# Altium footprint library Fuse.PcbLib: 117 footprints (part 5 of 8)
Each footprint in its own frame and in the unit in brackets; x right, y up, seen from the top. Pads: shape width x height; smd on the part's side, far side on the other; paste and mask are expansions set on the pad; w line width, h text height; cw(c..) or ccw(c..) is an arc to the next point about the centre after c.
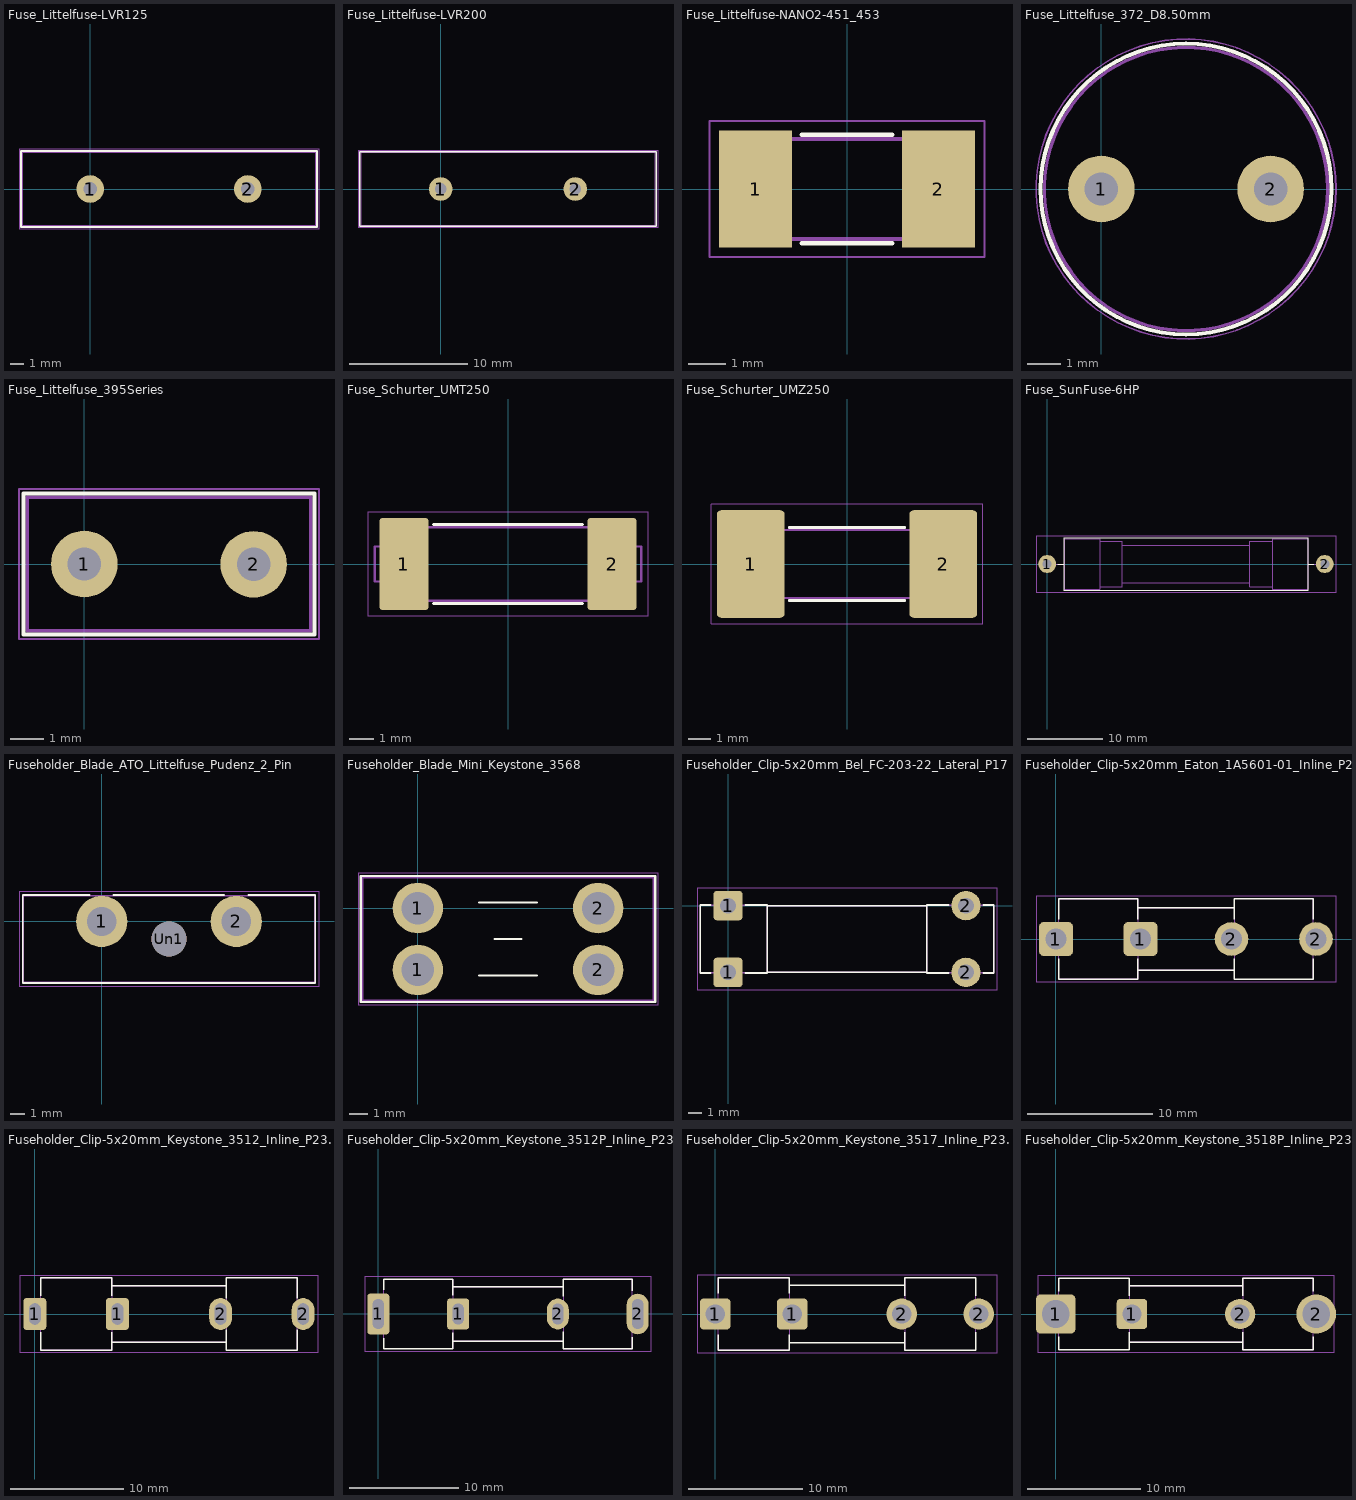
[diagram p4: the footprints below, top view; thin cyan lines are the x and y axes]

## Fuse_Littelfuse-LVR125 [mm]
pads (2):
  round 2 hole 1: 1(0,0) 2(11.4,0)
F.SilkS:
  lines w0.12: -5,-2.75 16.4,-2.75 16.4,2.75 -5,2.75 -5,-2.75
F.CrtYd:
  lines w0.05: -5.15,-2.9 -5.15,2.9 16.55,2.9 16.55,-2.9 -5.15,-2.9
F.Fab:
  lines w0.1: -4.9,-2.65 -4.9,2.65 16.3,2.65 16.3,-2.65 -4.9,-2.65
  text "'.Designator'" at 1.953,-0.84 h1

## Fuse_Littelfuse-LVR200 [mm]
pads (2):
  round 2 hole 1: 1(0,0) 2(11.4,0)
F.SilkS:
  lines w0.12: -6.85,-3.15 18.25,-3.15 18.25,3.15 -6.85,3.15 -6.85,-3.15
F.CrtYd:
  lines w0.05: -7,-3.3 -7,3.3 18.4,3.3 18.4,-3.3 -7,-3.3
F.Fab:
  lines w0.1: -6.75,-3.05 18.15,-3.05 18.15,3.05 -6.75,3.05 -6.75,-3.05
  text "'.Designator'" at 1.953,-0.84 h1

## Fuse_Littelfuse-NANO2-451_453 [mm]
pads (2):
  rect 1.96x3.15 smd: 1(-2.455,0) 2(2.455,0)
F.SilkS:
  lines w0.12: -1.215,-1.455 1.215,-1.455 ; -1.215,1.455 1.215,1.455
F.CrtYd:
  lines w0.05: -3.69,-1.83 -3.69,1.83 3.69,1.83 3.69,-1.83 -3.69,-1.83
F.Fab:
  lines w0.1: -3.05,-1.345 3.05,-1.345 3.05,1.345 -3.05,1.345 -3.05,-1.345
  text "'.Designator'" at -4.047,-0.84 h1

## Fuse_Littelfuse_372_D8.50mm [mm]
pads (2):
  round 2 hole 1: 1(0,0) 2(5.08,0)
F.SilkS:
  circle w0.12: c2.54,0 r4.36
F.CrtYd:
  circle w0.05: c2.54,0 r4.5
F.Fab:
  circle w0.1: c2.54,0 r4.25
  text "'.Designator'" at -1.507,-0.84 h1

## Fuse_Littelfuse_395Series [mm]
pads (2):
  round 2 hole 1: 1(0,0) 2(5.08,-0.01)
F.SilkS:
  lines w0.12: -1.83,-2.12 -1.83,2.12 6.91,2.12 6.91,-2.12 -1.83,-2.12
F.CrtYd:
  lines w0.05: -1.96,-2.25 -1.96,2.25 7.04,2.25 7.04,-2.25 -1.96,-2.25
F.Fab:
  lines w0.1: -1.71,-2 -1.71,2 6.79,2 6.79,-2 -1.71,-2
  text "'.Designator'" at -1.297,0.41 h1

## Fuse_Schurter_UMT250 [mm]
pads (2):
  rrect12% 2x3.75 smd: 1(-4.25,0) 2(4.25,0)
F.SilkS:
  lines w0.12: -3.05,-1.61 3.05,-1.61 ; -3.05,1.61 3.05,1.61
F.CrtYd:
  lines w0.05: -5.7,-2.13 -5.7,2.13 5.7,2.13 5.7,-2.13 -5.7,-2.13
F.Fab:
  lines w0.1: -5.05,-0.715 -5.45,-0.715 -5.45,0.715 -5.05,0.715 ; 5.05,-0.715 5.45,-0.715 5.45,0.715 5.05,0.715 ; -5.05,-1.5 5.05,-1.5 5.05,1.5 -5.05,1.5 -5.05,-1.5
  text "'.Designator'" at -4.047,-0.84 h1

## Fuse_Schurter_UMZ250 [mm]
pads (2):
  rrect12% 3x4.75 smd: 1(-4.25,0) 2(4.25,0)
F.SilkS:
  lines w0.12: -2.55,-1.61 2.55,-1.61 ; -2.55,1.61 2.55,1.61
F.CrtYd:
  lines w0.05: -6,-2.63 6,-2.63 6,2.63 -6,2.63 -6,-2.63
F.Fab:
  lines w0.1: -5.35,-0.715 -5.45,-0.715 -5.45,0.715 -5.35,0.715 ; -3.35,-1.5 -3.35,-2.1 -5.35,-2.1 -5.35,2.1 -3.35,2.1 -3.35,1.5 ; 3.35,-1.5 3.35,-2.1 5.35,-2.1 5.35,2.1 3.35,2.1 3.35,1.5 ; 5.35,-0.715 5.45,-0.715 5.45,0.715 5.35,0.715 ; -5.05,-1.5 -5.05,1.5 5.05,1.5 5.05,-1.5 -5.05,-1.5
  text "'.Designator'" at -4.047,-0.84 h1

## Fuse_SunFuse-6HP [mm]
pads (2):
  round 2.4 hole 1.2: 1(0,0) 2(37,0)
F.SilkS:
  lines w0.12: 2.18,-3.5 2.18,3.5 34.82,3.5 34.82,-3.5 2.18,-3.5
  lines w0.15: 1.4,0 2.18,0 ; 34.82,0 35.5,0
F.CrtYd:
  lines w0.05: -1.5,-3.75 38.5,-3.75 38.5,3.75 -1.5,3.75 -1.5,-3.75
F.Fab:
  lines w0.1: 0,0 2.25,0 ; 7,-3.05 10,-3.05 10,3.05 7,3.05 ; 10,-2.5 27,-2.5 ; 10,2.5 27,2.5 ; 30,-3.375 30,3.375 34.75,3.375 34.75,-3.375 30,-3.37 ; 30,-3.05 27,-3.05 27,3.05 30,3.05 ; 34.75,0 37,0 ; 2.25,-3.375 7,-3.375 7,3.375 2.25,3.375 2.25,-3.375
  text "'.Designator'" at 13.733,-5.92 h1

## Fuseholder_Blade_ATO_Littelfuse_Pudenz_2_Pin [mm]
pads (3):
  round 3.5 hole 2: 1(0,0) 2(9.2,0)
  round 2.4 hole 2.4: Un1(4.6,-1.2)
F.SilkS:
  lines w0.12: -0.81,1.8 -5.4,1.8 -5.4,-4.2 14.6,-4.2 14.6,1.8 10.02,1.8 ; 0.81,1.8 8.38,1.8
F.CrtYd:
  lines w0.05: -5.65,-4.45 14.85,-4.45 14.85,2.05 -5.65,2.05 -5.65,-4.45
F.Fab:
  lines w0.1: -5.35,-4.15 -5.35,1.75 14.55,1.75 14.55,-4.15 -5.35,-4.15
  text "'.Designator'" at 0.453,-4.34 h1

## Fuseholder_Blade_Mini_Keystone_3568 [mm]
pads (4):
  round 2.78 hole 1.78: 1(0,-3.4) 1(0,0) 2(9.92,-3.4) 2(9.92,0)
F.SilkS:
  lines w0.12: 3.36,-3.7 6.56,-3.7 ; 3.36,0.3 6.56,0.3 ; 4.21,-1.7 5.71,-1.7 ; -3.14,-5.17 13.06,-5.17 13.06,1.77 -3.14,1.77 -3.14,-5.17
F.CrtYd:
  lines w0.05: -3.29,-5.32 13.21,-5.32 13.21,1.92 -3.29,1.92 -3.29,-5.32
F.Fab:
  lines w0.1: -3.04,-5.07 -3.04,1.67 12.96,1.67 12.96,-5.07 -3.04,-5.07
  text "'.Designator'" at 0.913,-2.54 h1

## Fuseholder_Clip-5x20mm_Bel_FC-203-22_Lateral_P17.80x5.00mm_D1.17mm_Horizontal [mm]
pads (4):
  rrect25% 2.2x2.2 hole 1.17: 1(0,-5) 1(0,0)
  round 2.2 hole 1.17: 2(17.8,-5) 2(17.8,0)
F.SilkS:
  lines w0.12: -1.3,-5.04 -2.07,-5.04 -2.07,0.04 -1.3,0.04 ; 1.3,-5.04 2.93,-5.04 2.93,0.04 1.3,0.04 ; 2.93,-5 14.87,-5 ; 2.93,0 14.87,0 ; 16.5,-5.04 14.87,-5.04 14.87,0.04 16.5,0.04 ; 19.1,-5.04 19.87,-5.04 19.87,0.04 19.1,0.04
F.CrtYd:
  lines w0.05: -2.32,-6.35 20.12,-6.35 20.12,1.35 -2.32,1.35 -2.32,-6.35
F.Fab:
  lines w0.1: 2.9,-5.04 -2.07,-5.04 -2.07,0.04 2.93,0.04 2.93,-5.04 ; 2.93,-5 14.87,-5 ; 2.93,0 14.87,0 ; 14.87,-5.04 14.87,0.04 19.87,0.04 19.87,-5.04 14.87,-5.04
  text "'.Designator'" at 4.853,-3.34 h1

## Fuseholder_Clip-5x20mm_Eaton_1A5601-01_Inline_P20.80x6.76mm_D1.70mm_Horizontal [mm]
pads (4):
  rrect25% 2.7x2.7 hole 1.7: 1(0,0) 1(6.76,0)
  round 2.7 hole 1.7: 2(14.04,0) 2(20.8,0)
F.SilkS:
  lines w0.12: 0.23,-1.6 0.23,-3.2 6.53,-3.2 6.53,-1.6 ; 0.23,1.6 0.23,3.2 6.53,3.2 6.53,1.6 ; 6.53,-2.5 14.27,-2.5 ; 6.53,2.5 14.27,2.5 ; 14.27,-1.6 14.27,-3.2 20.57,-3.2 20.57,-1.6 ; 14.27,1.6 14.27,3.2 20.57,3.2 20.57,1.6
F.CrtYd:
  lines w0.05: -1.6,-3.47 -1.6,3.47 22.4,3.47 22.4,-3.47 -1.6,-3.47
F.Fab:
  lines w0.1: 6.53,-2.5 14.27,-2.5 ; 6.53,2.5 14.27,2.5 ; 0.23,-3.2 0.23,3.2 6.53,3.2 6.53,-3.2 0.23,-3.2 ; 14.27,-3.2 20.57,-3.2 20.57,3.2 14.27,3.2 14.27,-3.2
  text "'.Designator'" at 6.353,-0.84 h1

## Fuseholder_Clip-5x20mm_Keystone_3512_Inline_P23.62x7.27mm_D1.02x1.57mm_Horizontal [mm]
pads (4):
  rrect25% 2x2.8 hole 1.87 slot 1.02 at 0 deg: 1(0,0) 1(7.27,0)
  rrect100% 2x2.8 hole 1.87 slot 1.02 at 0 deg: 2(16.35,0) 2(23.62,0)
F.SilkS:
  lines w0.12: 0.51,-1.6 0.51,-3.175 6.76,-3.175 6.76,-1.6 ; 0.51,1.6 0.51,3.175 6.76,3.175 6.76,1.6 ; 6.76,-2.5 16.86,-2.5 ; 6.76,2.5 16.86,2.5 ; 16.86,-1.4 16.86,-3.175 23.11,-3.175 23.11,-1.4 ; 16.86,1.4 16.86,3.175 23.11,3.175 23.11,1.4
F.CrtYd:
  lines w0.05: -1.35,-3.43 24.97,-3.43 24.97,3.43 -1.35,3.43 -1.35,-3.43
F.Fab:
  lines w0.1: 6.76,-2.5 16.86,-2.5 ; 6.76,2.5 16.86,2.5 ; 0.51,-3.175 0.51,3.175 6.76,3.175 6.76,-3.175 0.51,-3.175 ; 16.86,-3.175 16.86,3.175 23.11,3.175 23.11,-3.175 16.86,-3.175
  text "'.Designator'" at 7.763,-0.84 h1

## Fuseholder_Clip-5x20mm_Keystone_3512P_Inline_P23.62x7.27mm_D1.02x2.41x1.02x1.57mm_Horizontal [mm]
pads (4):
  rrect25% 2x3.7 hole 2.71 slot 1.02 at 0 deg: 1(0,0)
  rrect25% 2x2.8 hole 1.87 slot 1.02 at 0 deg: 1(7.27,0)
  rrect100% 2x2.8 hole 1.87 slot 1.02 at 0 deg: 2(16.35,0)
  rrect100% 2x3.7 hole 2.71 slot 1.02 at 0 deg: 2(23.62,0)
F.SilkS:
  lines w0.12: 0.51,-2.2 0.51,-3.175 6.76,-3.175 6.76,-1.7 ; 0.51,2.2 0.51,3.175 6.76,3.175 6.76,1.7 ; 6.76,-2.5 16.86,-2.5 ; 6.76,2.5 16.86,2.5 ; 16.86,-1.6 16.86,-3.175 23.11,-3.175 23.11,-2.1 ; 16.86,1.6 16.86,3.175 23.11,3.175 23.11,2.1
F.CrtYd:
  lines w0.05: -1.25,-3.43 24.87,-3.43 24.87,3.43 -1.25,3.43 -1.25,-3.43
F.Fab:
  lines w0.1: 6.76,-2.5 16.86,-2.5 ; 6.76,2.5 16.86,2.5 ; 0.51,-3.175 0.51,3.175 6.76,3.175 6.76,-3.175 0.51,-3.175 ; 16.86,-3.175 23.11,-3.175 23.11,3.175 16.86,3.175 16.86,-3.175
  text "'.Designator'" at 7.763,-0.84 h1

## Fuseholder_Clip-5x20mm_Keystone_3517_Inline_P23.11x6.76mm_D1.70mm_Horizontal [mm]
pads (4):
  rrect25% 2.7x2.7 hole 1.7: 1(0,0) 1(6.76,0)
  round 2.7 hole 1.7: 2(16.35,0) 2(23.11,0)
F.SilkS:
  lines w0.12: 0.255,-1.8 0.255,-3.175 6.505,-3.175 6.505,-1.8 ; 0.255,1.8 0.255,3.175 6.505,3.175 6.505,1.8 ; 6.505,-2.5 16.605,-2.5 ; 6.505,2.5 16.605,2.5 ; 16.605,-1.6 16.605,-3.175 22.855,-3.175 22.855,-1.6 ; 16.605,1.6 16.605,3.175 22.855,3.175 22.855,1.6
F.CrtYd:
  lines w0.05: -1.6,-3.43 24.71,-3.43 24.71,3.43 -1.6,3.43 -1.6,-3.43
F.Fab:
  lines w0.1: 6.505,-2.5 16.605,-2.5 ; 6.505,2.5 16.605,2.5 ; 0.255,-3.175 6.505,-3.175 6.505,3.175 0.255,3.175 0.255,-3.175 ; 16.605,-3.175 16.605,3.175 22.855,3.175 22.855,-3.175 16.605,-3.175
  text "'.Designator'" at 7.508,-0.84 h1

## Fuseholder_Clip-5x20mm_Keystone_3518P_Inline_P23.11x6.76mm_D2.44x1.70mm_Horizontal [mm]
pads (4):
  rrect25% 3.5x3.5 hole 2.44: 1(0,0)
  rrect25% 2.7x2.7 hole 1.7: 1(6.76,0)
  round 2.7 hole 1.7: 2(16.35,0)
  round 3.5 hole 2.44: 2(23.11,0)
F.SilkS:
  lines w0.12: 0.255,-2 0.255,-3.175 6.505,-3.175 6.505,-1.6 ; 0.255,2 0.255,3.175 6.505,3.175 6.505,1.6 ; 6.505,-2.5 16.605,-2.5 ; 6.505,2.5 16.605,2.5 ; 16.605,-1.6 16.605,-3.175 22.855,-3.175 22.855,-2 ; 16.605,1.6 16.605,3.175 22.855,3.175 22.855,2
F.CrtYd:
  lines w0.05: -1.6,-3.43 24.71,-3.43 24.71,3.43 -1.6,3.43 -1.6,-3.43
F.Fab:
  lines w0.1: 6.505,-2.5 16.605,-2.5 ; 6.505,2.5 16.605,2.5 ; 0.255,-3.175 6.505,-3.175 6.505,3.175 0.255,3.175 0.255,-3.175 ; 16.605,-3.175 22.855,-3.175 22.855,3.175 16.605,3.175 16.605,-3.175
  text "'.Designator'" at 7.508,-0.84 h1